# EAGLE library part AT90*1200 (library atmel)
MICROCONTROLLER 1 Kbytes FLASH 64 bytes EEPROM
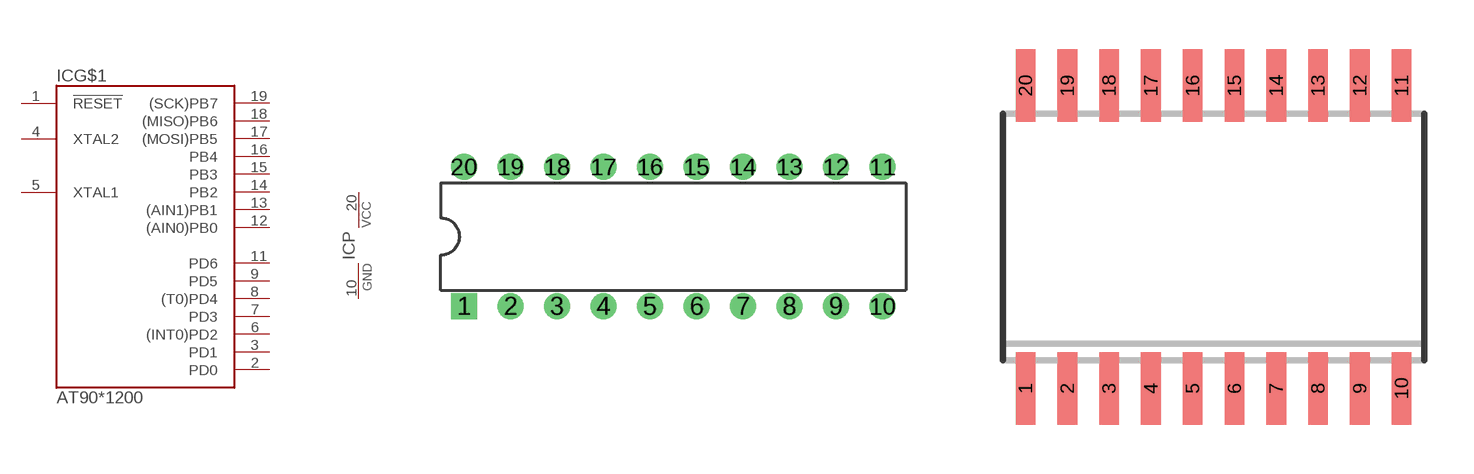
[diagram p16: symbol with the pads of DIL20; footprints DIL20, SO20W]

Designator prefix IC; gates G$1=15-I/O-1 P=PWR

## AT90S1200P  [DIL20]
1  G$1:!RESET
2  G$1:PD0
3  G$1:PD1
4  G$1:XTAL2
5  G$1:XTAL1
6  G$1:(INT0)PD2
7  G$1:PD3
8  G$1:(T0)PD4
9  G$1:PD5
10  P:GND  pwr
11  G$1:PD6
12  G$1:(AIN0)PB0
13  G$1:(AIN1)PB1
14  G$1:PB2
15  G$1:PB3
16  G$1:PB4
17  G$1:(MOSI)PB5
18  G$1:(MISO)PB6
19  G$1:(SCK)PB7
20  P:VCC  pwr

## AT90S1200S  [SO20W]
Pads as for DIL20

## AT90S1200Y  [MO-150AE]
Pads as for DIL20

## Footprint DIL20 (pad centres in mm)
DIL package, pin row distance 300mil
drill 0.8 pad 1.4 square: 1 -11.43,-3.81
drill 0.8 pad 1.4: 2 -8.89,-3.81; 3 -6.35,-3.81; 4 -3.81,-3.81; 5 -1.27,-3.81; 6 1.27,-3.81; 7 3.81,-3.81; 8 6.35,-3.81; 9 8.89,-3.81; 10 11.43,-3.81; 11 11.43,3.81; 12 8.89,3.81; 13 6.35,3.81; 14 3.81,3.81; 15 1.27,3.81; 16 -1.27,3.81; 17 -3.81,3.81; 18 -6.35,3.81; 19 -8.89,3.81; 20 -11.43,3.81

## Footprint SO20W (pad centres in mm)
Small Outline IC, 300mil body width, 50mil lead pitch package/pad dimensions according to IPC-SM-782, RLP No. 306A JEDEC: MS-013 AC IPC: SO20W other notations: SO-20W, SOIC20W, SOIC-20W
smd 0.6 x 2.2: 1 -5.715,-4.6; 2 -4.445,-4.6; 3 -3.175,-4.6; 4 -1.905,-4.6; 5 -0.635,-4.6; 6 0.635,-4.6; 7 1.905,-4.6; 8 3.175,-4.6; 9 4.445,-4.6; 10 5.715,-4.6; 11 5.715,4.6; 12 4.445,4.6; 13 3.175,4.6; 14 1.905,4.6; 15 0.635,4.6; 16 -0.635,4.6; 17 -1.905,4.6; 18 -3.175,4.6; 19 -4.445,4.6; 20 -5.715,4.6

## Footprint MO-150AE (pad centres in mm)
Small Shrink Outline Package, 7.2mm x 5.3mm body, 0.65mm lead pitch JEDEC: MO-150, variation AE NXP: SSOP20 (SOT339) Texas Instruments: DB (R-PDSO-G20) other notations: SSOP20, SSOP-20
smd 0.4 x 1.5: 1 -2.925,-3.55; 2 -2.275,-3.55; 3 -1.625,-3.55; 4 -0.975,-3.55; 5 -0.325,-3.55; 6 0.325,-3.55; 7 0.975,-3.55; 8 1.625,-3.55; 9 2.275,-3.55; 10 2.925,-3.55; 11 2.925,3.55; 12 2.275,3.55; 13 1.625,3.55; 14 0.975,3.55; 15 0.325,3.55; 16 -0.325,3.55; 17 -0.975,3.55; 18 -1.625,3.55; 19 -2.275,3.55; 20 -2.925,3.55